# EAGLE library part AD536AJD (library analog-devices)
Monolithic RMS to DC Converter
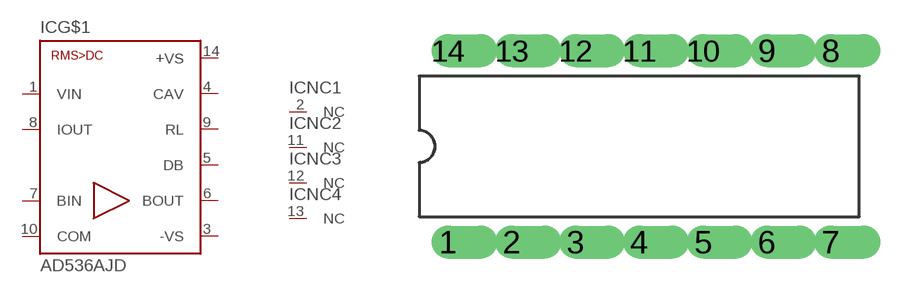
[diagram p11: symbol with the pads of DIL14; footprint DIL14]

Designator prefix IC; gates G$1=AD536 NC1=NC NC2=NC NC3=NC NC4=NC

## AD536AJD  [DIL14]
1  G$1:VIN  in
2  NC1:NC  nc
3  G$1:-VS  pwr
4  G$1:CAV  out
5  G$1:DB  out
6  G$1:BOUT  out
7  G$1:BIN  in
8  G$1:IOUT  out
9  G$1:RL  pas
10  G$1:COM  pwr
11  NC2:NC  nc
12  NC3:NC  nc
13  NC4:NC  nc
14  G$1:+VS  pwr

## Footprint DIL14 (pad centres in mm)
drill 0.813 offset: 1 -7.62,-3.81; 2 -5.08,-3.81; 3 -2.54,-3.81; 4 0,-3.81; 5 2.54,-3.81; 6 5.08,-3.81; 7 7.62,-3.81; 8 7.62,3.81; 9 5.08,3.81; 10 2.54,3.81; 11 0,3.81; 12 -2.54,3.81; 13 -5.08,3.81; 14 -7.62,3.81